# EAGLE library part 2.5-INCH (library FansElectronics-7Segmen)
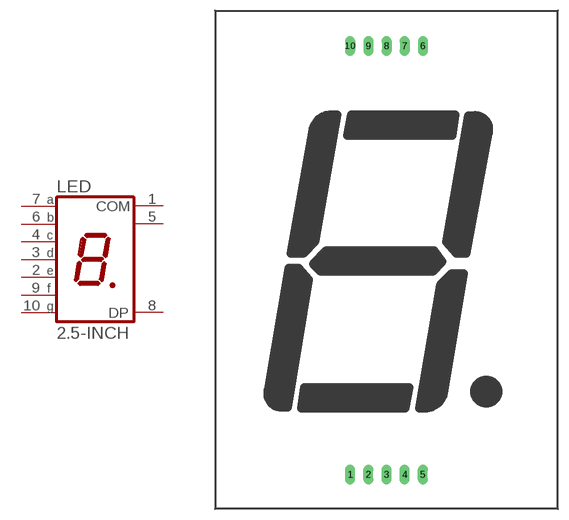
[diagram p2: symbol with the pads of 2.2"; footprint 2.2"]

Designator prefix LED

## 2.5-INCH  [2.2"]
1  COM  pas
2  E  pas
3  D  pas
4  C  pas
5  COM  pas
6  B  pas
7  A  pas
8  DP  pas
9  F  pas
10  G  pas

## Footprint 2.2" (pad centres in mm)
drill 0.7 pad 1.422 long: 1 -5.08,-29.41; 2 -2.54,-29.41; 3 0,-29.41; 4 2.54,-29.41; 5 5.08,-29.41; 6 5.08,30.58; 7 2.54,30.58; 8 0,30.58; 9 -2.54,30.58; 10 -5.08,30.58